# Altium schematic symbol library UCC24612-1.Schlib: 1 symbol
Pins are listed as number, name and electrical type; pins without a type are passive.

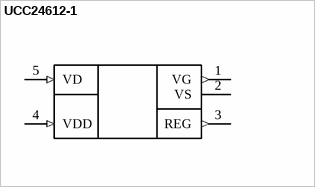
[diagram p0: symbol UCC24612-1]

## UCC24612-1
designator DD?
High-frequency multi-mode synchronous rectifier controller
pins: 1 VG (out), 2 VS (power), 3 REG (out), 4 VDD (in), 5 VD (in)